# Altium footprint library HT12D.PcbLib: 1 footprints
Each footprint in its own frame and in the unit in brackets; x right, y up, seen from the top. Pads: shape width x height; smd on the part's side, far side on the other; paste and mask are expansions set on the pad; w line width, h text height; cw(c..) or ccw(c..) is an arc to the next point about the centre after c.
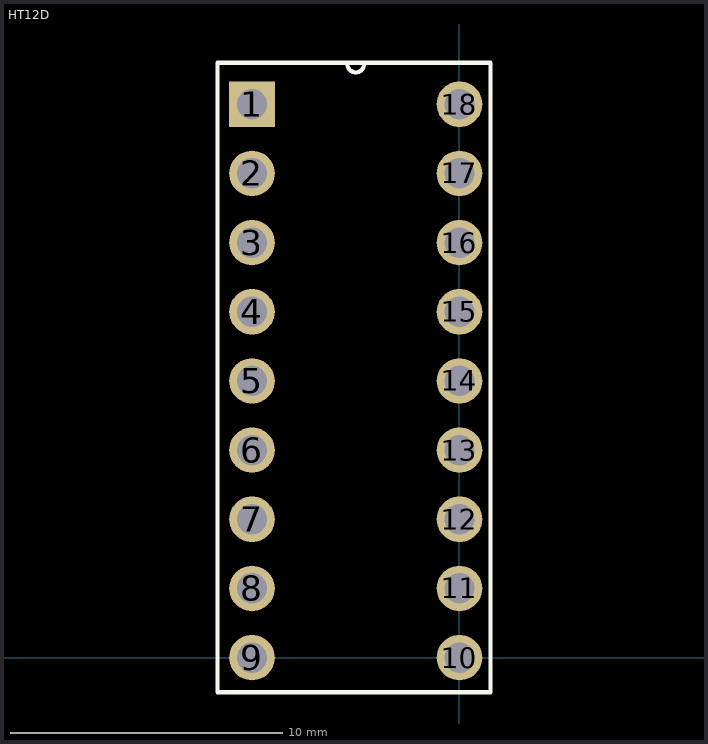
[diagram p0: the footprint, top view; thin cyan lines are the x and y axes]

## HT12D [mil]
pads (18):
  rect 66x66 hole 44: 1(-300,800)
  round 66 hole 44: 2(-300,700) 3(-300,600) 4(-300,500) 5(-300,400) 6(-300,300) 7(-300,200) 8(-300,100) 9(-300,0) 10(0,0) 11(0,100) 12(0,200) 13(0,300) 14(0,400) 15(0,500) 16(0,600) 17(0,700) 18(0,800)
Top Overlay:
  lines w6: -162,858 ccw(c-150,858) -138,858 ; -350,-50 45,-50 45,860 -350,860 -350,-50
Mechanical 13:
  lines w0: -162,858 ccw(c-150,858) -138,858 ; -322,-22 -280,-22 -280,22 -322,22 -322,-22 ; -322,78 -280,78 -280,122 -322,122 -322,78 ; -322,178 -280,178 -280,222 -322,222 -322,178 ; -322,278 -280,278 -280,322 -322,322 -322,278 ; -322,378 -280,378 -280,422 -322,422 -322,378 ; -322,478 -280,478 -280,522 -322,522 -322,478 ; -322,578 -280,578 -280,622 -322,622 -322,578 ; -322,678 -280,678 -280,722 -322,722 -322,678 ; -322,778 -280,778 -280,822 -322,822 -322,778 ; -20,-22 22,-22 22,22 -20,22 -20,-22 ; -20,78 22,78 22,122 -20,122 -20,78 ; -20,178 22,178 22,222 -20,222 -20,178 ; -20,278 22,278 22,322 -20,322 -20,278 ; -20,378 22,378 22,422 -20,422 -20,378 ; -20,478 22,478 22,522 -20,522 -20,478 ; -20,578 22,578 22,622 -20,622 -20,578 ; -20,678 22,678 22,722 -20,722 -20,678 ; -20,778 22,778 22,822 -20,822 -20,778